# Altium integrated library ECS-80-12-33-JGN-TR3.IntLib: 1 symbol
Pins are listed as number, name and electrical type; pins without a type are passive.

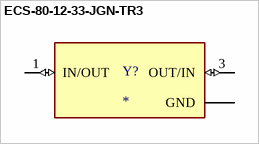
[diagram p0: symbol ECS-80-12-33-JGN-TR3]

## ECS-80-12-33-JGN-TR3
designator Y?
Crystal 8MHz Â±20ppm (Tol) Â±30ppm (Stability) 12pF FUND 400Ohm 4-Pin Mini-CSMD T/R; MF: ECS Inc.; MP: ECS-80-12-33-JGN-TR3; SnapEDA_Link: https://www.snapeda.com/parts/ECS-80-12-33-JGN-TR3/ECS/view-part/?ref=snap; Package: ECX-32-33-4 ECS; Value: *; Check_prices: https://www.snapeda.com/parts/ECS-80-12-33-JGN-TR3/ECS/view-part/?ref=eda
footprint XTAL_ECS-240-8-33-AGN-TR
pins: 1 IN/OUT (io), 2 GND (power), 3 OUT/IN (io), 4 GND (power)